# Altium footprint library TLE75602ESDXUMA1.PcbLib: 1 footprints
Each footprint in its own frame and in the unit in brackets; x right, y up, seen from the top. Pads: shape width x height; smd on the part's side, far side on the other; paste and mask are expansions set on the pad; w line width, h text height; cw(c..) or ccw(c..) is an arc to the next point about the centre after c.
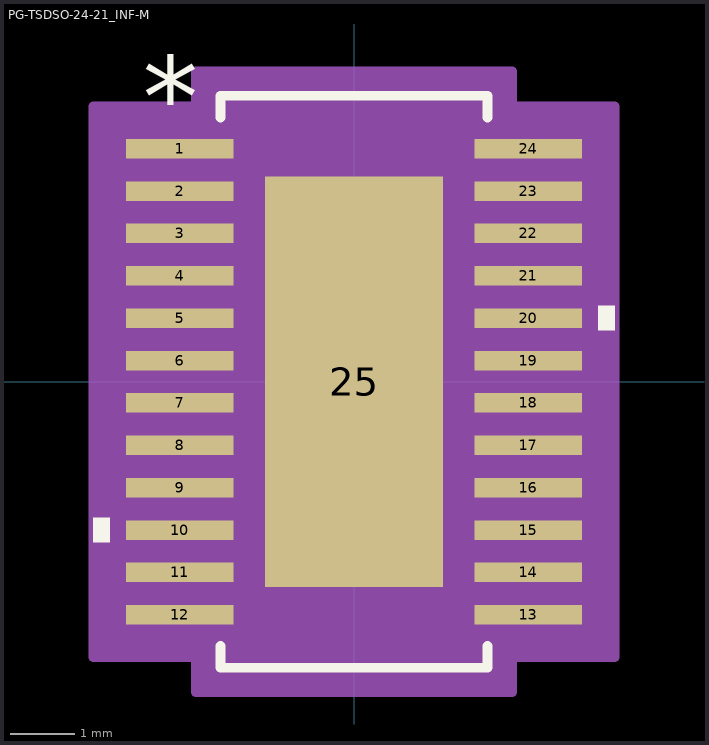
[diagram p0: the footprint, top view; thin cyan lines are the x and y axes]

## PG-TSDSO-24-21_INF-M [mil]
pads (25):
  rect 66x12 smd paste+0 mask+0: 1(-107,143) 2(-107,117) 3(-107,91) 4(-107,65) 5(-107,39) 6(-107,13) 7(-107,-13) 8(-107,-39) 9(-107,-65) 10(-107,-91) 11(-107,-117) 12(-107,-143) 13(107,-143) 14(107,-117) 15(107,-91) 16(107,-65) 17(107,-39) 18(107,-13) 19(107,13) 20(107,39) 21(107,65) 22(107,91) 23(107,117) 24(107,143)
  rect 109x252 smd paste-125.5 mask+0: 25(0,0)
Top Overlay:
  region: -150,-83.5 -160,-83.5 -160,-98.5 -150,-98.5
  region: 150,46.5 160,46.5 160,31.5 150,31.5
  lines w6: -82,-162.1 -82,-175.5 82,-175.5 82,-162.1 ; -82,162.1 -82,175.5 82,175.5 82,162.1
  text "*" at -129.5,150 h50
Top Paste:
  region: -3.94,122.06 -50.56,122.06 -50.56,79.54 -3.94,79.54
  region: -3.94,71.66 -50.56,71.66 -50.56,29.14 -3.94,29.14
  region: -3.94,21.26 -50.56,21.26 -50.56,-21.26 -3.94,-21.26
  region: -3.94,-29.14 -50.56,-29.14 -50.56,-71.66 -3.94,-71.66
  region: -3.94,-79.54 -50.56,-79.54 -50.56,-122.06 -3.94,-122.06
  region: 50.56,122.06 3.94,122.06 3.94,79.54 50.56,79.54
  region: 50.56,71.66 3.94,71.66 3.94,29.14 50.56,29.14
  region: 50.56,21.26 3.94,21.26 3.94,-21.26 50.56,-21.26
  region: 50.56,-29.14 3.94,-29.14 3.94,-71.66 50.56,-71.66
  region: 50.56,-79.54 3.94,-79.54 3.94,-122.06 50.56,-122.06
Mechanical 13:
  lines w0: -12,170.5 ccw(c0,170.5) 12,170.5
  lines w1: -118,-148 -118,-138 -77,-138 -77,-148 -118,-148 ; -118,-122 -118,-112 -77,-112 -77,-122 -118,-122 ; -118,-96 -118,-86 -77,-86 -77,-96 -118,-96 ; -118,-70 -118,-60 -77,-60 -77,-70 -118,-70 ; -118,-44 -118,-34 -77,-34 -77,-44 -118,-44 ; -118,-18 -118,-8 -77,-8 -77,-18 -118,-18 ; -118,8 -118,18 -77,18 -77,8 -118,8 ; -118,34 -118,44 -77,44 -77,34 -118,34 ; -118,60 -118,70 -77,70 -77,60 -118,60 ; -118,86 -118,96 -77,96 -77,86 -118,86 ; -118,112 -118,122 -77,122 -77,112 -118,112 ; -118,138 -118,148 -77,148 -77,138 -118,138 ; -77,-170.5 77,-170.5 77,170.5 -77,170.5 -77,-170.5 ; 77,-148 77,-138 118,-138 118,-148 77,-148 ; 77,-122 77,-112 118,-112 118,-122 77,-122 ; 77,-96 77,-86 118,-86 118,-96 77,-96 ; 77,-70 77,-60 118,-60 118,-70 77,-70 ; 77,-44 77,-34 118,-34 118,-44 77,-44 ; 77,-18 77,-8 118,-8 118,-18 77,-18 ; 77,8 77,18 118,18 118,8 77,8 ; 77,34 77,44 118,44 118,34 77,34 ; 77,60 77,70 118,70 118,60 77,60 ; 77,86 77,96 118,96 118,86 77,86 ; 77,112 77,122 118,122 118,112 77,112 ; 77,138 77,148 118,148 118,138 77,138
  text "*" at -74.5,117.5 h50
Mechanical 15:
  region: -97,-169 -160,-169 -160,169 -97,169 -97,190.5 97,190.5 97,169 160,169 160,-169 97,-169 97,-190.5 -97,-190.5
  lines w6: -160,-169 -160,169 -97,169 -97,190.5 97,190.5 97,169 160,169 160,-169 97,-169 97,-190.5 -97,-190.5 -97,-169 -160,-169
3D body "PG-TSDSO-24-21_INF.step": height 45.12, standoff 0, extent -117.99,-170.51 117.99,170.51